# Altium footprint library MCP4822T-ESN.PcbLib: 1 footprints
Each footprint in its own frame and in the unit in brackets; x right, y up, seen from the top. Pads: shape width x height; smd on the part's side, far side on the other; paste and mask are expansions set on the pad; w line width, h text height; cw(c..) or ccw(c..) is an arc to the next point about the centre after c.
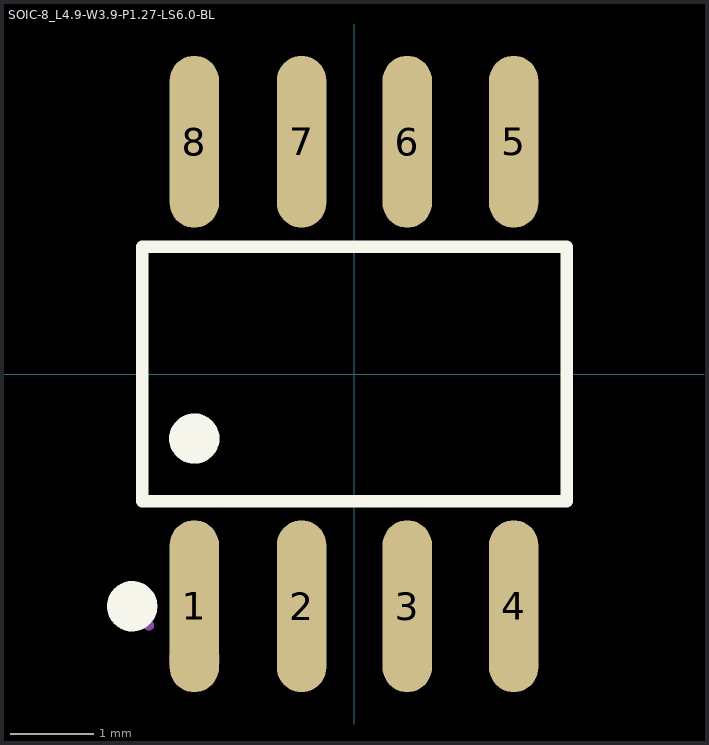
[diagram p0: the footprint, top view; thin cyan lines are the x and y axes]

## SOIC-8_L4.9-W3.9-P1.27-LS6.0-BL [mm]
pads (8):
  rrect100% 0.59x2.05 smd: 1(-1.91,-2.77) 2(-0.63,-2.77) 3(0.63,-2.77) 4(1.9,-2.77) 5(1.9,2.77) 6(0.63,2.77) 7(-0.63,2.77) 8(-1.91,2.77)
F.SilkS:
  circle w0.3: c-2.65,-2.77 r0.15
  circle w0.3: c-1.91,-0.77 r0.15
  lines w0.15: -2.53,-1.52 2.53,-1.52 2.53,1.52 -2.53,1.52 -2.53,-1.52
F.Fab:
  circle w0.06: c-2.45,-3 r0.03
Cmts.User:
  circle w0.3: c-1.91,-3.4 r0.15
3D body "SOP-8_L4.9-W3.9-H1.45-LS6.0-P1.27.step": height 1.6, standoff -0.05, extent -2.45,-2.799 2.45,3.307